# Altium footprint library K210.PcbLib: 1 footprints
Each footprint in its own frame and in the unit in brackets; x right, y up, seen from the top. Pads: shape width x height; smd on the part's side, far side on the other; paste and mask are expansions set on the pad; w line width, h text height; cw(c..) or ccw(c..) is an arc to the next point about the centre after c.
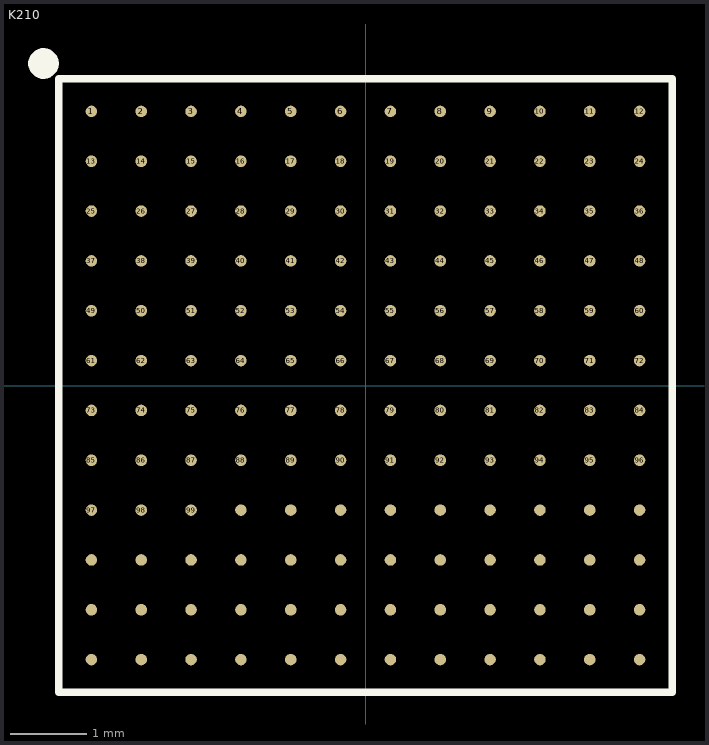
[diagram p0: the footprint, top view; thin cyan lines are the x and y axes]

## K210 [mm]
height 0.953
pads (144):
  round 0.15 smd: 1(-3.575,3.575) 2(-2.925,3.575) 3(-2.275,3.575) 4(-1.625,3.575) 5(-0.975,3.575) 6(-0.325,3.575) 7(0.325,3.575) 8(0.975,3.575) 9(1.625,3.575) 10(2.275,3.575) 11(2.925,3.575) 12(3.575,3.575) 13(-3.575,2.925) 14(-2.925,2.925) 15(-2.275,2.925) 16(-1.625,2.925) 17(-0.975,2.925) 18(-0.325,2.925) 19(0.325,2.925) 20(0.975,2.925) 21(1.625,2.925) 22(2.275,2.925) 23(2.925,2.925) 24(3.575,2.925) 25(-3.575,2.275) 26(-2.925,2.275) 27(-2.275,2.275) 28(-1.625,2.275) 29(-0.975,2.275) 30(-0.325,2.275) 31(0.325,2.275) 32(0.975,2.275) 33(1.625,2.275) 34(2.275,2.275) 35(2.925,2.275) 36(3.575,2.275) 37(-3.575,1.625) 38(-2.925,1.625) 39(-2.275,1.625) 40(-1.625,1.625) 41(-0.975,1.625) 42(-0.325,1.625) 43(0.325,1.625) 44(0.975,1.625) 45(1.625,1.625) 46(2.275,1.625) 47(2.925,1.625) 48(3.575,1.625) 49(-3.575,0.975) 50(-2.925,0.975) 51(-2.275,0.975) 52(-1.625,0.975) 53(-0.975,0.975) 54(-0.325,0.975) 55(0.325,0.975) 56(0.975,0.975) 57(1.625,0.975) 58(2.275,0.975) 59(2.925,0.975) 60(3.575,0.975) 61(-3.575,0.325) 62(-2.925,0.325) 63(-2.275,0.325) 64(-1.625,0.325) 65(-0.975,0.325) 66(-0.325,0.325) 67(0.325,0.325) 68(0.975,0.325) 69(1.625,0.325) 70(2.275,0.325) 71(2.925,0.325) 72(3.575,0.325) 73(-3.575,-0.325) 74(-2.925,-0.325) 75(-2.275,-0.325) 76(-1.625,-0.325) 77(-0.975,-0.325) 78(-0.325,-0.325) 79(0.325,-0.325) 80(0.975,-0.325) 81(1.625,-0.325) 82(2.275,-0.325) 83(2.925,-0.325) 84(3.575,-0.325) 85(-3.575,-0.975) 86(-2.925,-0.975) 87(-2.275,-0.975) 88(-1.625,-0.975) 89(-0.975,-0.975) 90(-0.325,-0.975) 91(0.325,-0.975) 92(0.975,-0.975) 93(1.625,-0.975) 94(2.275,-0.975) 95(2.925,-0.975) 96(3.575,-0.975) 97(-3.575,-1.625) 98(-2.925,-1.625) 99(-2.275,-1.625) 100(-1.625,-1.625) 101(-0.975,-1.625) 102(-0.325,-1.625) 103(0.325,-1.625) 104(0.975,-1.625) 105(1.625,-1.625) 106(2.275,-1.625) 107(2.925,-1.625) 108(3.575,-1.625) 109(-3.575,-2.275) 110(-2.925,-2.275) 111(-2.275,-2.275) 112(-1.625,-2.275) 113(-0.975,-2.275) 114(-0.325,-2.275) 115(0.325,-2.275) 116(0.975,-2.275) 117(1.625,-2.275) 118(2.275,-2.275) 119(2.925,-2.275) 120(3.575,-2.275) 121(-3.575,-2.925) 122(-2.925,-2.925) 123(-2.275,-2.925) 124(-1.625,-2.925) 125(-0.975,-2.925) 126(-0.325,-2.925) 127(0.325,-2.925) 128(0.975,-2.925) 129(1.625,-2.925) 130(2.275,-2.925) 131(2.925,-2.925) 132(3.575,-2.925) 133(-3.575,-3.575) 134(-2.925,-3.575) 135(-2.275,-3.575) 136(-1.625,-3.575) 137(-0.975,-3.575) 138(-0.325,-3.575) 139(0.325,-3.575) 140(0.975,-3.575) 141(1.625,-3.575) 142(2.275,-3.575) 143(2.925,-3.575) 144(3.575,-3.575)
Top Overlay:
  circle w0.2: c-4.2,4.2 r0.1
  lines w0.1: -4,-4 -4,4 4,4 4,-4 -4,-4